# EAGLE library part HDR-1X13 (library con-hdrs40)
HEADER CONNECTOR
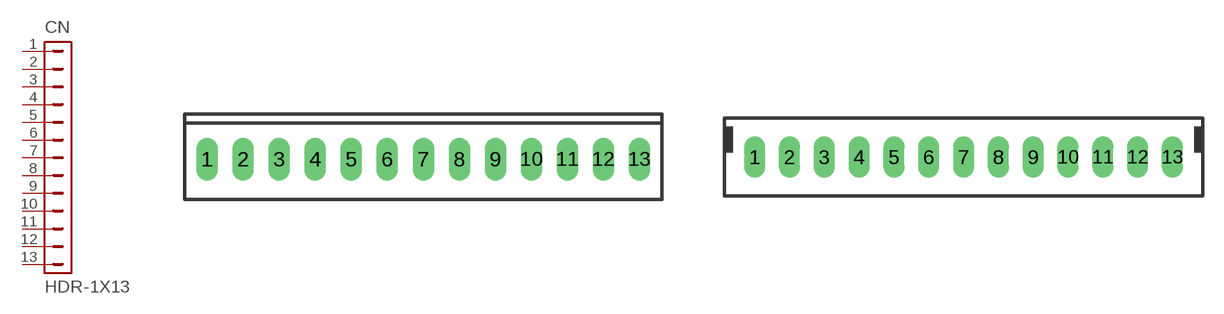
[diagram p7: symbol with the pads of MTA-100-13V; footprints MTA-100-13V, MTE-100-13V]

Designator prefix CN

## HDR-1X13-MTA-100  [MTA-100-13V]
1  1  pas
2  2  pas
3  3  pas
4  4  pas
5  5  pas
6  6  pas
7  7  pas
8  8  pas
9  9  pas
10  10  pas
11  11  pas
12  12  pas
13  13  pas

## HDR-1X13-MTE-100  [MTE-100-13V]
Pads as for MTA-100-13V

## HDR-1X13-MTE-100-L  [MTE-100-13VL]
Pads as for MTA-100-13V

## HDR-1X13-SIP-100  [SIP-100-13V]
Pads as for MTA-100-13V

## HDR-1X13-15-91-?  [15-91-13]
Pads as for MTA-100-13V

## HDR-1X13-70543-?  [70543-13]
Pads as for MTA-100-13V

## HDR-1X13-70553-?  [70553-13]
Pads as for MTA-100-13V

## Footprint MTA-100-13V (pad centres in mm)
AMP MTA Vertical .100" 13 pin
drill 1.016 long: 1 -15.24,0; 2 -12.7,0; 3 -10.16,0; 4 -7.62,0; 5 -5.08,0; 6 -2.54,0; 7 0,0; 8 2.54,0; 9 5.08,0; 10 7.62,0; 11 10.16,0; 12 12.7,0; 13 15.24,0

## Footprint MTE-100-13V (pad centres in mm)
AMP MTE Vertical .100" 13 pin
drill 1.016 long: 1 -15.24,0; 2 -12.7,0; 3 -10.16,0; 4 -7.62,0; 5 -5.08,0; 6 -2.54,0; 7 0,0; 8 2.54,0; 9 5.08,0; 10 7.62,0; 11 10.16,0; 12 12.7,0; 13 15.24,0

## Footprint MTE-100-13VL (pad centres in mm)
AMP MTE Vertical .100" 13 pin w/latch
drill 1.016 long: 1 -15.24,0; 2 -12.7,0; 3 -10.16,0; 4 -7.62,0; 5 -5.08,0; 6 -2.54,0; 7 0,0; 8 2.54,0; 9 5.08,0; 10 7.62,0; 11 10.16,0; 12 12.7,0; 13 15.24,0

## Footprint SIP-100-13V (pad centres in mm)
SIP Header Vertical 100" 13 pin
drill 1.016 long: 1 -15.24,0; 2 -12.7,0; 3 -10.16,0; 4 -7.62,0; 5 -5.08,0; 6 -2.54,0; 7 0,0; 8 2.54,0; 9 5.08,0; 10 7.62,0; 11 10.16,0; 12 12.7,0; 13 15.24,0

## Footprint 15-91-13 (pad centres in mm)
C-Grid SL Connector right angle SMD, 13 pin
smd 1.651 x 5.334: 1 -15.24,-10.795; 2 -12.7,-10.795; 3 -10.16,-10.795; 4 -7.62,-10.795; 5 -5.08,-10.795; 6 -2.54,-10.795; 7 0,-10.795; 8 2.54,-10.795; 9 5.08,-10.795; 10 7.62,-10.795; 11 10.16,-10.795; 12 12.7,-10.795; 13 15.24,-10.795
hole 3.404 at -16.637,0.838
hole 3.404 at 16.637,0.838

## Footprint 70543-13 (pad centres in mm)
Molex C-Grid SL Connector vertical, 13 pin
drill 1.016 long: 1 -15.24,0; 2 -12.7,0; 3 -10.16,0; 4 -7.62,0; 5 -5.08,0; 6 -2.54,0; 7 0,0; 8 2.54,0; 9 5.08,0; 10 7.62,0; 11 10.16,0; 12 12.7,0; 13 15.24,0

## Footprint 70553-13 (pad centres in mm)
Molex C-Grid SL Connector right angle, 13 pin
drill 1.092 long: 1 -15.24,-7.62; 2 -12.7,-7.62; 3 -10.16,-7.62; 4 -7.62,-7.62; 5 -5.08,-7.62; 6 -2.54,-7.62; 7 0,-7.62; 8 2.54,-7.62; 9 5.08,-7.62; 10 7.62,-7.62; 11 10.16,-7.62; 12 12.7,-7.62; 13 15.24,-7.62